# EAGLE library part ARDUINO_MICRO (library E14_Arduino)
Device for representing an Arduino Micro board with a footprint in an EAGLE design. Created by Dave Young for Element14. More EAGLE documentation at: http://www.element14.com/community/community/knode/cadsoft_eagle
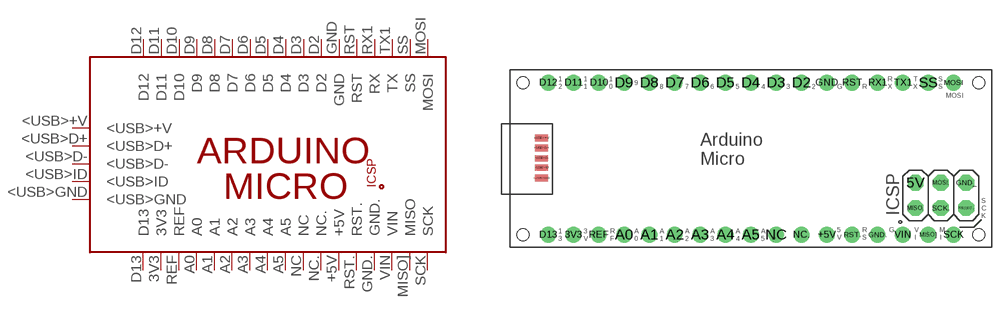
[diagram p5: symbol with the pads of ARDUINO_MICRO; footprint ARDUINO_MICRO]

Designator prefix PCB

## ARDUINO_MICRO  [ARDUINO_MICRO]
3V3  3V3
5V  5V
+5V  +5V
<USB>+V  <USB>+V
<USB>D+  <USB>D+
<USB>D-  <USB>D-
<USB>GND  <USB>GND
<USB>ID  <USB>ID
A0  A0
A1  A1
A2  A2
A3  A3
A4  A4
A5  A5
D2  D2
D3  D3
D4  D4
D5  D5
D6  D6
D7  D7
D8  D8
D9  D9
D10  D10
D11  D11
D12  D12
D13  D13
GND  GND
GND.  GND.
GND_  GND_
MISO.  MISO.
MISO]  MISO
MOSI  MOSI
MOSI.  MOSI.
NC  NC
NC.  NC.
REF  REF
RESET..  RESET..
RST  RST
RST.  RST.
RX1  RX
SCK  SCK
SCK.  SCK.
SS  SS
TX1  TX
VIN  VIN

## Footprint ARDUINO_MICRO (pad centres in mm)
Footprint for representing an Arduino Micro board in an EAGLE schematic. Created by Dave Young for Element14. More EAGLE documentation at: http://www.element14.com/community/community/knode/cadsoft_eagle
drill 1.016 pad 1.575: 3V3 6.35,1.27; +5V 31.75,1.27; A0 11.43,1.27; A1 13.97,1.27; A2 16.51,1.27; A3 19.05,1.27; A4 21.59,1.27; A5 24.13,1.27; D2 29.21,16.51; D3 26.67,16.51; D4 24.13,16.51; D5 21.59,16.51; D6 19.05,16.51; D7 16.51,16.51; D8 13.97,16.51; D9 11.43,16.51; D10 8.89,16.51; D11 6.35,16.51; D12 3.81,16.51; D13 3.81,1.27; GND 31.75,16.51; GND. 36.83,1.27; MISO] 41.91,1.27; MOSI 44.45,16.51; NC 26.67,1.27; NC. 29.21,1.27; REF 8.89,1.27; RST 34.29,16.51; RST. 34.29,1.27; RX1 36.83,16.51; SCK 44.45,1.27; SS 41.91,16.51; TX1 39.37,16.51; VIN 39.37,1.27
drill 1.016 pad 1.575 octagon: 5V 40.64,6.477; GND_ 45.72,6.477; MISO. 40.64,3.937; MOSI. 43.18,6.477; RESET.. 45.72,3.937; SCK. 43.18,3.937
smd 1.27 x 0.635: <USB>+V 3.15,10.947; <USB>D+ 3.15,9.957; <USB>D- 3.15,8.941; <USB>GND 3.15,6.96; <USB>ID 3.15,7.976
hole 1.2 at 1.27,1.27
hole 1.2 at 1.27,16.51
hole 1.2 at 46.99,16.51
hole 1.2 at 46.99,1.27